# Altium footprint library PLS-4-2.54mm.PcbLib: 1 footprints
Each footprint in its own frame and in the unit in brackets; x right, y up, seen from the top. Pads: shape width x height; smd on the part's side, far side on the other; paste and mask are expansions set on the pad; w line width, h text height; cw(c..) or ccw(c..) is an arc to the next point about the centre after c.
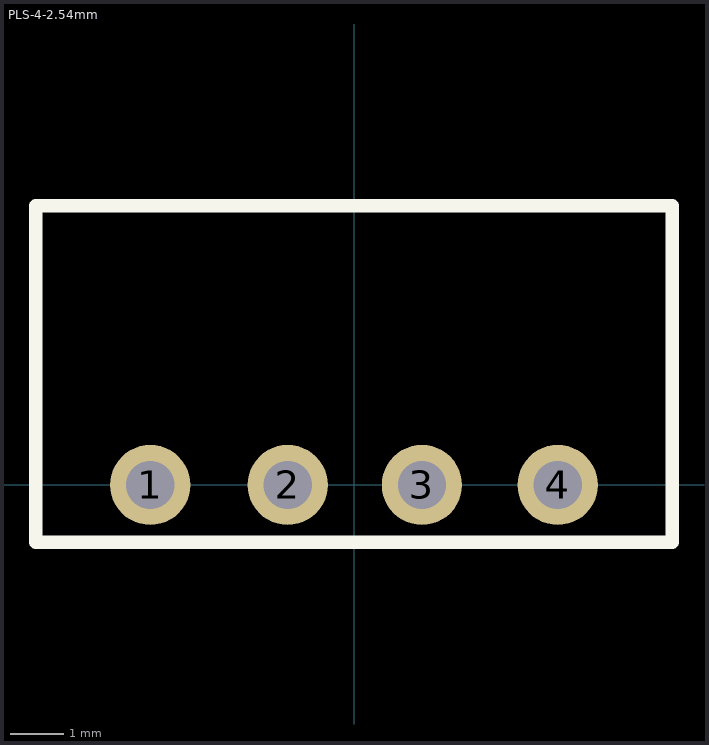
[diagram p0: the footprint, top view; thin cyan lines are the x and y axes]

## PLS-4-2.54mm [mm]
pads (4):
  round 1.5 hole 0.9: 1(-3.81,0) 2(-1.24,0) 3(1.27,0) 4(3.81,0)
Top Overlay:
  lines w0.254: -5.95,-1.075 5.95,-1.075 5.95,5.225 -5.95,5.225 -5.95,-1.075
3D body "User Library-B0505S-1W-1.STEP": height 10.16, standoff -2.5, extent -5.8,-0.925 5.8,5.075